# Altium schematic symbol library ADS7852.SchLib: 1 symbol
Pins are listed as number, name and electrical type; pins without a type are passive.

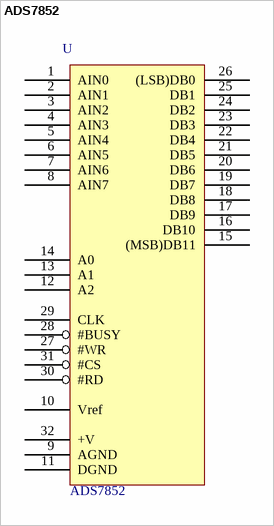
[diagram p0: symbol ADS7852]

## ADS7852
designator U  value ADS7852  (hidden comment: *)
Manufacturer Code: ADS7852Y; Manufacturer: Texas Instruments; Farnell Code: 8409331; Unit Price: 8,58 €
footprint PQFP-32
footprint PQFP-32 (Footprint not found)
pins: 1 AIN0, 2 AIN1, 3 AIN2, 4 AIN3, 5 AIN4, 6 AIN5, 7 AIN6, 8 AIN7, 9 AGND, 10 Vref, 11 DGND, 12 A2, 13 A1, 14 A0, 15 (MSB)DB11, 16 DB10, 17 DB9, 18 DB8, 19 DB7, 20 DB6, 21 DB5, 22 DB4, 23 DB3, 24 DB2, 25 DB1, 26 (LSB)DB0, 27 #WR, 28 #BUSY, 29 CLK, 30 #RD, 31 #CS, 32 +V